# EAGLE library part 4000 (library _mtvl.40xx)
Dual 3-input NOR & INVERTER
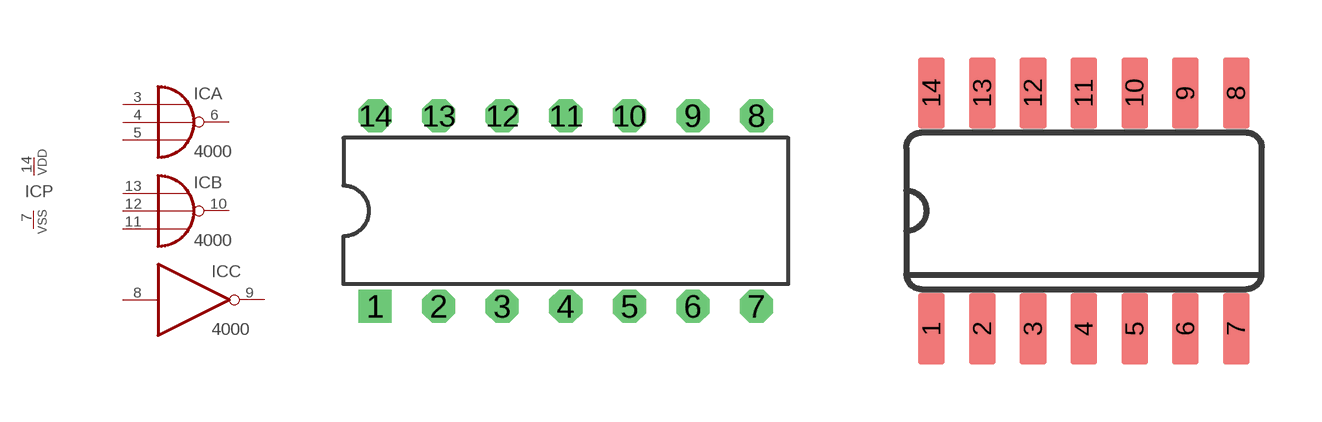
[diagram p72: symbol with the pads of DIL14; footprints DIL14, SO14]

Designator prefix IC; gates A=4025 B=4025 C=4009 P=PWRN

## 4000N  [DIL14]
3  A:I0  in
4  A:I1  in
5  A:I2  in
6  A:O  out
7  P:VSS  pwr
8  C:I  in
9  C:O  out
10  B:O  out
11  B:I2  in
12  B:I1  in
13  B:I0  in
14  P:VDD  pwr

## 4000D  [SO14]
Pads as for DIL14

## Footprint DIL14 (pad centres in mm)
Dual In Line Package
drill 0.813 square: 1 -7.62,-3.81
drill 0.813 octagon: 2 -5.08,-3.81; 3 -2.54,-3.81; 4 0,-3.81; 5 2.54,-3.81; 6 5.08,-3.81; 7 7.62,-3.81; 8 7.62,3.81; 9 5.08,3.81; 10 2.54,3.81; 11 0,3.81; 12 -2.54,3.81; 13 -5.08,3.81; 14 -7.62,3.81

## Footprint SO14 (pad centres in mm)
Small Outline package 150 mil
smd 0.66 x 1.778: 1 -3.81,-2.946; 2 -2.54,-2.946; 3 -1.27,-2.946; 4 0,-2.946; 5 1.27,-2.946; 6 2.54,-2.946; 7 3.81,-2.946; 8 3.81,2.946; 9 2.54,2.946; 10 1.27,2.946; 11 0,2.946; 12 -1.27,2.946; 13 -2.54,2.946; 14 -3.81,2.946